# EAGLE library part IC_ATMEL-TINY85 (library SMD-Components_E950)
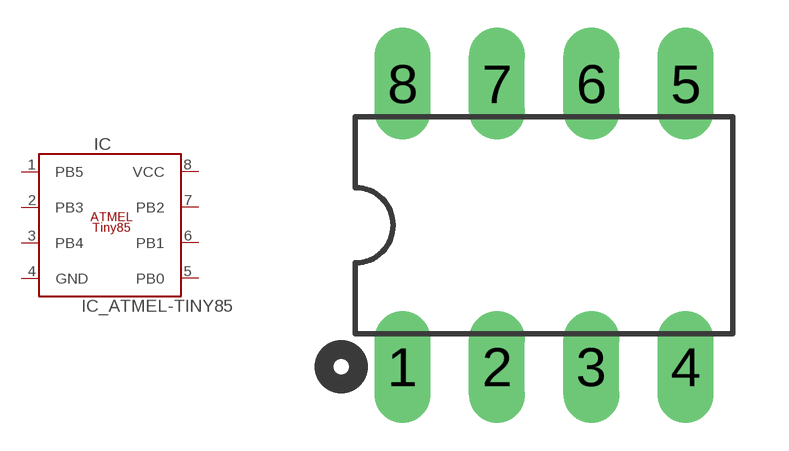
[diagram p14: symbol with the pads of DIP-8_PIN_ATMEL-TINY85; footprint DIP-8_PIN_ATMEL-TINY85]

Designator prefix IC

## IC_ATMEL-TINY85  [DIP-8_PIN_ATMEL-TINY85]
1  PB5  in
2  PB3  pas
3  PB4  in
4  GND  pwr
5  PB0  in
6  PB1  in
7  PB2  in
8  VCC  pwr

## Footprint DIP-8_PIN_ATMEL-TINY85 (pad centres in mm)
drill 1 pad 1.27 long: 1 -3.81,-3.81; 2 -1.27,-3.81; 3 1.27,-3.81; 4 3.81,-3.81; 5 3.81,3.81; 6 1.27,3.81; 7 -1.27,3.81; 8 -3.81,3.81